# Altium schematic symbol library Inductor.SchLib: 25 symbols
Pins are listed as number, name and electrical type; pins without a type are passive.

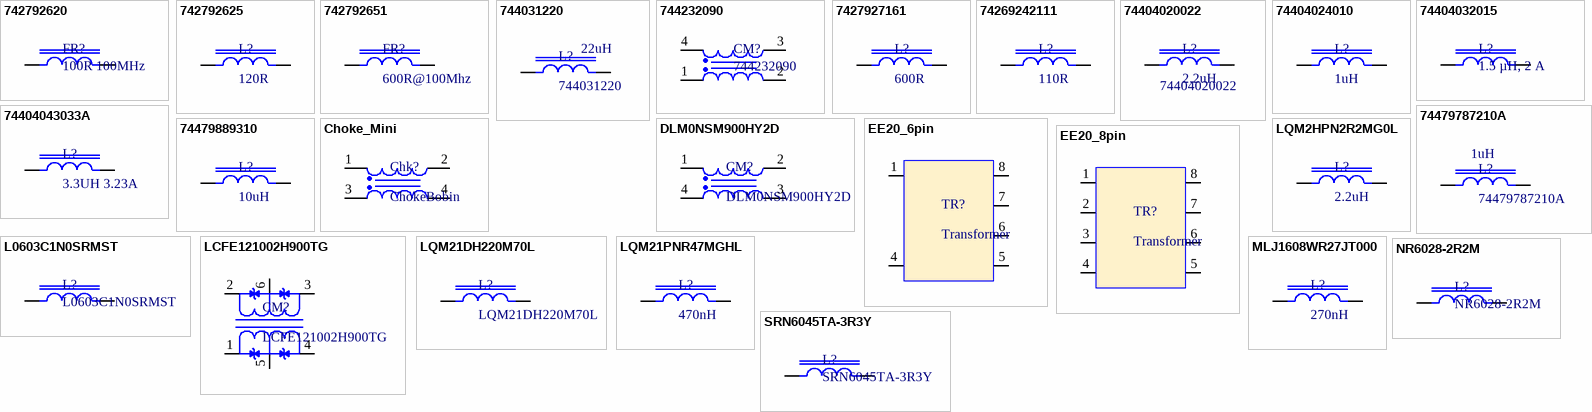
[diagram p0: symbols 742792620 to SRN6045TA-3R3Y]

## 742792620
designator FR?, comment 100R 100MHz
100Ohm 100MHz 500mA 0603 SMD; Manufacturer: Wurth Electronics; Manufacturer Part Number: 742792620; Tolerance: 25%; DC Resistance (DCR): 150mR; Purpose Of Usage: BASIC; Supplier 1: Digi-Key; Supplier Part Number 1: 732-1579-1-ND; RoHS: YES; Mount: SMD; Case/Package: SMD/SMT; Min Operating Temperature: -55°C; Max Operating Temperature: 125°C; Current Rating: 500mA; Length: 1.6mm; Category: INDUCTORS; Sub-Category: FERRITE BEADS; Stock ID: ??
pins: 1, 2

## 742792625
designator L?, comment 120R
Ferrite Beads Multi-Layer 120Ohm 25% 100MHz 2A 50mOhm DCR 0603 T/R; Manufacturer: Wurth Electronics; Manufacturer Part Number: 742792625; Test Frequency: 400MHz; DC Resistance (DCR): 50mR; Purpose Of Usage: BASIC; Supplier 1: Digi-Key; RoHS: YES; Category: INDUCTORS; Stock 1: 126400; Case/Package: SMD/SMT; Material: Ferrite; Min Operating Temperature: -55°C; Max Operating Temperature: 125°C; Tolerance: 25%; Impedance: 120R; Max Current Rating: 2A; Max DC Current: 2A; Termination: SMD/SMT; Series: WE-CBF; Length: 1.6mm; RoHS Compliant: Yes; Supplier Part Number 1: 732-4665-2-ND; Current Rating: 2A; Mount: SMD; Stock ID: ??; Sub-Category: FERRITE BEADS
footprint L0603
pins: 1, 2

## 742792651
designator FR?, comment 600R@100Mhz
Ferrite Beads WE-CBF 0603 SMD Bead 100MHz 600Ohm 1000mA; Manufacturer: Wurth Electronics; Manufacturer Part Number: 742792651; Tolerance: 25%; Current Rating: 1A; DC Resistance (DCR): 200mR; Value: 0.36H; Shielding: Unshielded; Purpose Of Usage: BASIC; Supplier 1: Digi-Key; RoHS: YES; Category: INDUCTORS; Stock 1: 668570; Case/Package: 0603; Min Operating Temperature: -55°C; Max Operating Temperature: 125°C; Max DC Current: 1A; Termination: SMD/SMT; Test Frequency: 100MHz; Series: WE-CBF; Length: 1.6mm; Supplier Part Number 1: 732-1593-2-ND; Mount: SMD; Stock ID: ??; Sub-Category: FERRITE BEADS
footprint L0603
pins: 1, 2

## 744031220
designator L?  value 22uH
Power Choke Shielded Wirewound 22uH 30% 100KHz Ferrite 510mA 450mOhm DCR T/R; Manufacturer: Wurth Electronics; DC Resistance (DCR): 450mR; Purpose Of Usage: BASIC; Supplier 1: Digi-Key; Manufacturer Part Number: 744031220; RoHS: YES; Category: INDUCTORS; Case/Package: 3816; Min Operating Temperature: -40°C; Max Operating Temperature: 125°C; Tolerance: 30%; Inductance Tolerance: 30%; Current Rating: 510mA; Shielding: Shielded; Length: 3.8mm; Supplier Part Number 1: 732-1012-2-ND; Stock ID: ??; Sub-Category: FIXED INDUCTORS; Mount: SMD; Local Supplier: Würth; Price 10K: 0.18
footprint WE-TPC_3816 (Power Inductor, SMD, 2-Leads, body 3.8x3.8mm)
pins: 1, 2

## 744232090
designator CM?
Common Mode Chokes Dual 90Ohm 100MHz 370mA SMD T/R; Manufacturer: Wurth Electronics; Tolerance: 25%; Value: 3.3H; DC Resistance (DCR): 300mR; Purpose Of Usage: BASIC; Supplier 1: Digi-Key; Supplier Part Number 1: 732-1469-1-ND; Manufacturer Part Number: 744232090; RoHS: YES; Mount: SMD; Case/Package: SMD/SMT; Min Operating Temperature: -40°C; Max Operating Temperature: 125°C; Current Rating: 370mA; Length: 3.2mm; Category: INDUCTORS; Sub-Category: COMMON MODE CHOKES; Stock ID: ??
footprint WE-CNSW_1206 (SMT Common Mode Line Filter, 4-leads, body 3.2x1.6mm)
pins: 1, 2, 3, 4

## 7427927161
designator L?, comment 600R
Ferrite Bead, 600R, 0.25A, 0402; Manufacturer: Wurth Electronics; Manufacturer Part Number: 7427927161; Current Rating: 250mA; Tolerance: 25%; DC Resistance (DCR): 560mR; Test Frequency: 100MHz; Purpose Of Usage: BASIC; Supplier 1: Digi-Key; RoHS: YES; Category: INDUCTORS; Stock 1: 40000; Case/Package: 0402; Min Operating Temperature: -55°C; Max Operating Temperature: 125°C; Max DC Current: 250mA; Termination: SMD/SMT; Series: WE-CBF; Length: 1mm; Supplier Part Number 1: 732-2387-2-ND; Mount: SMD; Stock ID: ??; Sub-Category: FERRITE BEADS
footprint L0402
pins: 1, 2

## 74269242111
designator L?, comment 110R
Ferrite Bead, 0.09 Ohm, 1.2A, 0402;; Manufacturer: Wurth Electronics; Manufacturer Part Number: 74269242111; Purpose Of Usage: BASIC; Supplier 1: Digi-Key; RoHS: NO; Category: INDUCTORS; Stock 1: 18401; Supplier Part Number 1: 732-74269242111CT-ND; Case/Package: 0402; Mount: SMD; Stock ID: ??; Sub-Category: FERRITE BEADS
footprint L0402
pins: 1, 2

## 74404020022
designator L?, comment 2.2uH  Manufacturer Part Number: 74404020022
2.2uH 960MA 220 Mohm; Manufacturer: Wurth Electronics; Tolerance: 20%; Saturation Current: 1.4A; Shielding: Shielded; DC Resistance (DCR): 220mR; Self Resonant Frequency: 107MHz; Test Frequency: 1MHz; Purpose Of Usage: BASIC; Supplier 1: Digi-Key; RoHS: YES; Category: INDUCTORS; Stock 1: 789; Case/Package: Nonstandard; Min Operating Temperature: -40°C; Max Operating Temperature: 125°C; Resistor Type: Wirewound; Value: 2.2uH; Current Rating: 960mA; Supplier Part Number 1: 732-10741-6-ND; Mount: SMD; Stock ID: ??; Sub-Category: FIXED INDUCTORS
footprint WE-LQS_2010 (SMD Power Inductor, 2-Leads, body 2x1.6mm)
pins: 1, 2

## 74404024010
designator L?, comment 1uH
1uH 2.2A 37 Mohm SMD; Manufacturer: Wurth Electronics; Manufacturer Part Number: 74404024010; Inductance Tolerance: 20%; Saturation Current: 2.6A; Shielding: Shielded; DC Resistance (DCR): 37mR; Self Resonant Frequency: 159MHz; Test Frequency: 1MHz; Purpose Of Usage: BASIC; Supplier 1: Digi-Key; RoHS: YES; Category: INDUCTORS; Stock 1: 1070; Case/Package: Nonstandard; Min Operating Temperature: -40°C; Max Operating Temperature: 125°C; Resistor Type: Wirewound; Value: 1uH; Current Rating: 2.2A; RMS Current (Irms): 2.2A; Tolerance: 20%; Termination: SMD/SMT; Max DC Current: 2.2A; Series: WE-LQS; Length: 0.098inch; Supplier Part Number 1: 732-5425-6-ND; Mount: SMD; Stock ID: ??; Sub-Category: FIXED INDUCTORS; Local Supplier: Würth; Price 10K: 0.108
footprint WE-LQS_2512 (SMD Power Inductor, 2-Leads, body 2.5x2mm)
pins: 1, 2

## 74404032015
designator L?, comment 1.5 µH, 2 A
1.5 µH, 2 A, Semishielded, 2.3 A, 3mm x 3mm x 1.5mm; Manufacturer: Wurth Electronics; Manufacturer Part Number: 74404032015; Inductance Tolerance: 20%; Value: 1.5uH; Current Rating: 2A; DC Resistance (DCR): 40mR; Purpose Of Usage: BASIC; Supplier 1: Digi-Key; RoHS: YES; Mount: SMD; Case/Package: Nonstandard; Min Operating Temperature: -40°C; Max Operating Temperature: 125°C; Shielding: Shielded; Tolerance: 20%; Length: 0.118inch; Category: INDUCTORS; Supplier Part Number 1: 732-5492-1-ND; Sub-Category: FIXED INDUCTORS; Stock ID: ??
footprint WE-LQS SMT
pins: 1, 2

## 74404043033A
designator L?, comment 3.3UH 3.23A
3.3UH 3.23A 33 MOHM; Manufacturer: Wurth Electronics; Manufacturer Part Number: 74404043033A; Purpose Of Usage: BASIC; Supplier 1: Digi-Key; Supplier Part Number 1: 732-10755-1-ND; RoHS: NO; Category: INDUCTORS; Case/Package: Nonstandard; Value: 3.3uH; Mount: SMD; Sub-Category: FIXED INDUCTORS; Stock ID: ??
footprint WE-LQS_4025
pins: 1, 2

## 74479787210A
designator L?  value 1uH
WURTH ELEKTRONIK - 74479787210A - High Frequency Inductor, 1 &#181;H, WE-PMI Series, 1.7 A, 1008 [2516 Metric], Multilayer, 0.055 ohm; Manufacturer: Wurth Electronics; Inductance Tolerance: 20%; Current Rating: 1.7A; Shielding: Shielded; DC Resistance (DCR): 55mR; Purpose Of Usage: BASIC; Supplier 1: Digi-Key; Manufacturer Part Number: 74479787210A; RoHS: YES; Category: INDUCTORS; Case/Package: SMD/SMT; Min Operating Temperature: -40°C; Max Operating Temperature: 125°C; Tolerance: 20%; Length: 0.102inch; Supplier Part Number 1: 732-3436-1-ND; Mount: SMD; Stock ID: ??; Sub-Category: FIXED INDUCTORS
footprint WE-PMI_1008_L2.5W2H1 (Power Multilayer Inductor, body 2.5x2mm)
pins: 1, 2

## 74479889310
designator L?, comment 10uH
10uH, 500mA, 1008, 500mR; Manufacturer: Wurth Electronics; Manufacturer Part Number: 74479889310; Purpose Of Usage: BASIC; Supplier 1: Farnell; RoHS: YES; Category: INDUCTORS; Stock 1: 3000; Pricing 1: 100=1.12, 250=1.02, 500=0.896, 1500=0.845, 3000=0.801, 15000=0.775, 30000=0.727 (EUR); Supplier Part Number 1: 4065966RL; Case/Package: 1008; Current Rating: 500mA; DC Resistance (DCR): 500mR; Local Supplier: Würth; Max Operating Temperature: 125°C; Min Operating Temperature: -40°C; Mount: SMD; Price 10K: 0.108; Stock ID: ??; Sub-Category: FIXED INDUCTORS
footprint WE-PMI_1008_L2.5W2H1.2 (Power Multilayer Inductor, body 2.5x2mm)
pins: 1, 2

## Choke_Mini
designator Chk?, comment ChokeBobin
Purpose Of Usage: BASIC; Category: INDUCTORS; Case/Package: THT; Mount: THT; Sub-Category: COMMON MODE CHOKES; Stock ID: ??
footprint CHOKE_MINI
pins: 1, 2, 3, 4

## DLM0NSM900HY2D
designator CM?
Common Mode Chokes Dual 90Ohm 100MHz 0.1A 4.75Ohm DCR SMD T/R; Manufacturer: Murata; Purpose Of Usage: BASIC; Supplier 1: Digi-Key; Manufacturer Part Number: DLM0NSM900HY2D; RoHS: YES; Category: INDUCTORS; Supplier Part Number 1: 490-DLM0NSM900HY2DCT-ND; Mount: SMD; Stock ID: ??; Sub-Category: COMMON MODE CHOKES
footprint DLM0NSM900HY2D (Chip Array, Flat, 4-Leads, Pitch 0.50mm,  Body 0.85x0.65mm,  IPC Medium Density)
pins: 1, 2, 3, 4

## EE20_6pin
designator TR?, comment Transformer
Purpose Of Usage: BASIC; Category: INDUCTORS; Case/Package: THT; Mount: THT; Sub-Category: TRANSFORMER; Stock ID: ??
footprint EE20 6 pin
pins: 1, 4, 5, 6, 7, 8

## EE20_8pin
designator TR?, comment Transformer
Purpose Of Usage: BASIC; Category: INDUCTORS; Case/Package: THT; Mount: THT; Sub-Category: TRANSFORMER; Stock ID: ??
footprint EE20 8 pin
pins: 1, 2, 3, 4, 5, 6, 7, 8

## L0603C1N0SRMST
designator L?
1nH 300mA 0.3nH Fixed Inductors; Manufacturer: KEMET; Shielding: Unshielded; DC Resistance (DCR): 50mR; Purpose Of Usage: BASIC; Supplier 1: Digi-Key; Manufacturer Part Number: L0603C1N0SRMST; RoHS: YES; Mount: SMD; Case/Package: 0603; Min Operating Temperature: -40°C; Max Operating Temperature: 85°C; Current Rating: 300mA; Value: 1nH; Length: 0.063inch; Supplier Part Number 1: 399-9568-1-ND; Category: INDUCTORS; Sub-Category: FIXED INDUCTORS; Stock ID: ??
footprint L0805
pins: 1, 2

## LCFE121002H900TG
designator CM?
Common Mode Chokes Dual 90Ohm 100MHz 0.1A 6Ohm DCR SMD T/R; Manufacturer: Littelfuse; DC Resistance (DCR): 6R; Current Rating: 100mA; Purpose Of Usage: BASIC; Supplier 1: Digi-Key; Manufacturer Part Number: LCFE121002H900TG; RoHS: YES; Category: INDUCTORS; Min Operating Temperature: -40°C; Max Operating Temperature: 85°C; Supplier Part Number 1: F10198CT-ND; Case/Package: 1210; Mount: SMD; Stock ID: ??; Sub-Category: COMMON MODE CHOKES; Local Supplier: Future; Price 10K: 0.092
footprint LCFE121002H900TG
pins: 1, 2, 3, 4, 5, 6

## LQM2HPN2R2MG0L
designator L?, comment 2.2uH
2.2uH ,1.3A ,%20 ,1008; Manufacturer: Murata; Manufacturer Part Number: LQM2HPN2R2MG0L; Shielding: Shielded; Tolerance: 20%; DC Resistance (DCR): 80mR; Purpose Of Usage: BASIC; Supplier 1: Digi-Key; RoHS: YES; Category: INDUCTORS; Mount: SMD; Case/Package: 1008; Min Operating Temperature: -55°C; Max Operating Temperature: 125°C; Current Rating: 1.3A; Value: 2.2uH; Inductance Tolerance: 20%; Length: 2.5mm; Supplier Part Number 1: 490-5114-1-ND; Sub-Category: FIXED INDUCTORS; Stock ID: ??
footprint L1008 (Chip Inductor, 2-Leads, Body 2.50x0.90mm, IPC Medium Density)
pins: 1, 2

## LQM21DH220M70L
designator L?
Inductor Power Chip Shielded Multi-Layer 22uH 20% 1MHz Ferrite 0.22A 1.625Ohm DCR 0805 Automotive T/R; Manufacturer: Murata; Purpose Of Usage: BASIC; Supplier 1: Digi-Key; Manufacturer Part Number: LQM21DH220M70L; RoHS: YES; Category: INDUCTORS; Stock 1: 1903; Supplier Part Number 1: 490-18464-1-ND; Mount: SMD; Stock ID: ??; Sub-Category: FIXED INDUCTORS; Case/Package: 0805; Value: 22uH
footprint L0805
pins: 1, 2

## LQM21PNR47MGHL
designator L?, comment 470nH
470nH, 3.1A, 0805; Manufacturer: Murata; Manufacturer Part Number: LQM21PNR47MGHL; Tolerance: 20%; Shielding: Unshielded; DC Resistance (DCR): 50mR; Purpose Of Usage: BASIC; Supplier 1: Digi-Key; RoHS: YES; Category: INDUCTORS; Mount: SMD; Case/Package: 0805; Min Operating Temperature: -40°C; Max Operating Temperature: 85°C; Value: 470nH; Current Rating: 3.1A; Supplier Part Number 1: 490-17698-1-ND; Sub-Category: FIXED INDUCTORS; Stock ID: ??
footprint L0805
pins: 1, 2

## MLJ1608WR27JT000
designator L?, comment 270nH
Ind Chip Shielded Multi-Layer 270nH 5% 25MHz 25Q-Factor Ferrite 550mA 0603 Paper T/R; Manufacturer: TDK; Manufacturer Part Number: MLJ1608WR27JT000; Saturation Current: 650mA; DC Resistance (DCR): 286mR; Self Resonant Frequency: 260MHz; Purpose Of Usage: BASIC; Supplier 1: Digi-Key; RoHS: YES; Category: INDUCTORS; Stock 1: 4000; Case/Package: 0603; Min Operating Temperature: -55°C; Max Operating Temperature: 125°C; Value: 270nH; Current Rating: 550mA; Shielding: Shielded; Test Frequency: 25MHz; Tolerance: 5%; Length: 0.063inch; RoHS Compliant: Yes; Supplier Part Number 1: 445-174189-2-ND; Mount: SMD; Stock ID: ??; Sub-Category: FIXED INDUCTORS
footprint L0603
pins: 1, 2

## NR6028-2R2M
designator L?
INDUCTOR POWER 2.2UH 6X6MM 4.2A SMD 30%; Manufacturer: COREMASTER; DC Resistance (DCR): 26mR; Purpose Of Usage: BASIC; Manufacturer Part Number: NR6028-2R2M; RoHS: NO; Mount: SMD; Inductance Tolerance: 30%; Value: 2.2uH; Supplier 1: OZDİSAN; Supplier Part Number 1: NR6028-2R2M; Category: INDUCTORS; Case/Package: Nonstandard; Sub-Category: FIXED INDUCTORS; Stock ID: ??; Local Supplier: OZDİSAN; Price 10K: 0.15
footprint NR6028-2R2M
pins: 1, 2

## SRN6045TA-3R3Y
designator L?
BOURNS - SRN6045TA-3R3Y - Power Inductor (SMD), 3.3 µH, 5 A, Semishielded, 7.8 A, SRN6045TA Series, 6mm x 6mm x 4.2mm; Inductance Tolerance: 30%; Value: 3.3uH; DC Resistance (DCR): 21mR; Purpose Of Usage: BASIC; Manufacturer: Bourns; Manufacturer Part Number: SRN6045TA-3R3Y; RoHS: NO; Mount: SMD; Supplier 1: Digi-Key; Supplier Part Number 1: SRN6045TA-3R3YCT-ND; Category: INDUCTORS; Case/Package: Nonstandard; Sub-Category: FIXED INDUCTORS; Stock ID: ??
footprint SRN6045TA
pins: 1, 2